# Altium schematic symbol library Xbee.SchLib: 1 symbol
Pins are listed as number, name and electrical type; pins without a type are passive.

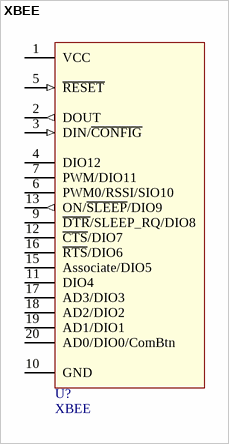
[diagram p0: symbol XBEE]

## XBEE
designator U?
MODULE ZIGBEE XBEE ZNET 2.5 1MW; Manufacturer: DIGI INTERNATIONAL; Manufacturer Part Number: XB24-BWIT-004; Supplier 1: Farnell; Supplier Part Number 1: 1546390
footprint Xbee_surface
footprint Xbee
pins: 1 VCC (power), 2 DOUT (out), 3 DIN/~{CONFIG} (in), 4 DIO12, 5 ~{RESET} (in), 6 PWM0/RSSI/SIO10, 7 PWM/DIO11, 9 ~{DTR}/SLEEP_RQ/DIO8, 10 GND (power), 11 DIO4, 12 ~{CTS}/DIO7, 13 ON/~{SLEEP}/DIO9 (out), 15 Associate/DIO5, 16 ~{RTS}/DIO6, 17 AD3/DIO3, 18 AD2/DIO2, 19 AD1/DIO1, 20 AD0/DIO0/ComBtn